# Altium schematic symbol library 按键-开关.SchLib: 36 symbols
Pins are listed as number, name and electrical type; pins without a type are passive.

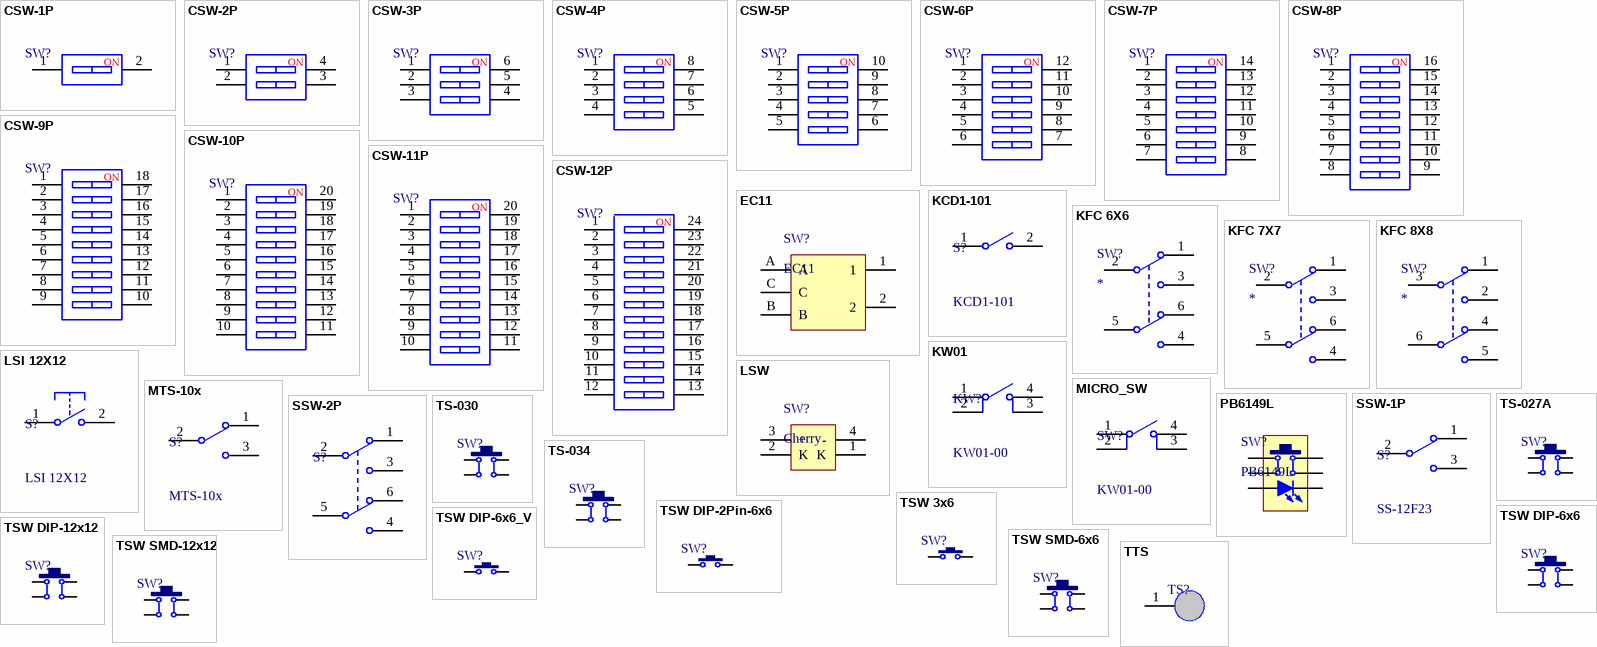
[diagram p0: symbols CSW-1P to TTS]

## CSW-1P
designator SW?  (value not drawn)
1路编码开关; BOM名称: 1路编码开关
footprint CSW DIP-1P (4.1*9.9*7mm)
footprint CSW DIP-1P_G (4.1*9.9*7mm)
pins: 1, 2
text: NO

## CSW-2P
designator SW?  (value not drawn)
2路编码开关; BOM名称: 2路编码开关
footprint CSW DIP-2P (6.6*9.9*7mm)
footprint CSW DIP-2P_G (6.6*9.9*7mm)
footprint CSW1.27 SMD-2P (长：4.14mm，宽：5.4mm，高：2.3mm)
pins: 1, 2, 3, 4
text: NO

## CSW-3P
designator SW?  (value not drawn)
3路编码开关; BOM名称: 3路编码开关
footprint CSW DIP-3P (9.2*9.9*7mm)
footprint CSW DIP-3P_G (9.2*9.9*7mm)
footprint CSW1.27 SMD-3P (长：5.41mm，宽：5.4mm，高：2.3mm)
pins: 1, 2, 3, 4, 5, 6
text: NO

## CSW-4P
designator SW?  (value not drawn)
4路编码开关; BOM名称: 4路编码开关
footprint CSW DIP-4P (11.7*9.9*7mm)
footprint CSW DIP-4P_G (11.7*9.9*7mm)
footprint CSW1.27 SMD-4P (长：6.68mm，宽：5.4mm，高：2.3mm)
pins: 1, 2, 3, 4, 5, 6, 7, 8
text: NO

## CSW-5P
designator SW?  (value not drawn)
5路编码开关; BOM名称: 5路编码开关
footprint CSW DIP-5P (14.2*9.9*7mm)
footprint CSW DIP-5P_G (14.2*9.9*7mm)
footprint CSW1.27 SMD-5P (长：7.95mm，宽：5.4mm，高：2.3mm)
pins: 1, 2, 3, 4, 5, 6, 7, 8, 9, 10
text: NO

## CSW-6P
designator SW?  (value not drawn)
6路编码开关; BOM名称: 6路编码开关
footprint CSW DIP-6P (16.8*9.9*7mm)
footprint CSW DIP-6P_G (16.8*9.9*7mm)
footprint CSW1.27 SMD-6P (长：9.22mm，宽：5.4mm，高：2.3mm)
pins: 1, 2, 3, 4, 5, 6, 7, 8, 9, 10, 11, 12
text: NO

## CSW-7P
designator SW?  (value not drawn)
7路编码开关; BOM名称: 7路编码开关
footprint CSW DIP-7P (19.3*9.9*7mm)
footprint CSW DIP-7P_G (19.3*9.9*7mm)
pins: 1, 2, 3, 4, 5, 6, 7, 8, 9, 10, 11, 12, 13, 14
text: NO

## CSW-8P
designator SW?  (value not drawn)
8路编码开关; BOM名称: 8路编码开关
footprint CSW DIP-8P (21.9*9.9*7mm)
footprint CSW DIP-8P_G (21.9*9.9*7mm)
footprint CSW1.27 SMD-8P (长：11.76mm，宽：5.4mm，高：2.3mm)
pins: 1, 2, 3, 4, 5, 6, 7, 8, 9, 10, 11, 12, 13, 14, 15, 16
text: NO

## CSW-9P
designator SW?  (value not drawn)
9路编码开关; BOM名称: 9路编码开关
footprint CSW DIP-9P (21.4*9.9*7mm)
footprint CSW DIP-9P_G (21.4*9.9*7mm)
pins: 1, 2, 3, 4, 5, 6, 7, 8, 9, 10, 11, 12, 13, 14, 15, 16, 17, 18
text: NO

## CSW-10P
designator SW?  (value not drawn)
10路编码开关; BOM名称: 10路编码开关
footprint CSW DIP-10P (27*9.9*7mm)
footprint CSW DIP-10P_G (27*9.9*7mm)
footprint CSW1.27 SMD-10P (长：14.3mm，宽：5.4mm，高：2.3mm)
pins: 1, 2, 3, 4, 5, 6, 7, 8, 9, 10, 11, 12, 13, 14, 15, 16, 17, 18, 19, 20
text: NO

## CSW-11P
designator SW?  (value not drawn)
11路编码开关; BOM名称: 11路编码开关
footprint CSW DIP-11P (29.5*9.9*7mm)
footprint CSW DIP-11P_G (29.5*9.9*7mm)
pins: 1, 2, 3, 4, 5, 6, 7, 8, 9, 10, 11, 12, 13, 14, 15, 16, 17, 18, 19, 20
text: NO

## CSW-12P
designator SW?  (value not drawn)
12路编码开关; BOM名称: 12路编码开关
footprint CSW DIP-12P (32.1*9.9*7mm)
footprint CSW DIP-12P_G (32.1*9.9*7mm)
pins: 1, 2, 3, 4, 5, 6, 7, 8, 9, 10, 11, 12, 13, 14, 15, 16, 17, 18, 19, 20, 21, 22, 23, 24
text: NO

## EC11
designator SW?
数字开关编码器; BOM名称: 数字编码开关
footprint EC11 (数字开关编码器)
footprint EC11-B (数字开关编码器)
pins: 1, 2, A, B, C

## KCD1-101
designator S?
1路单刀船型开关; BOM名称: 1路单刀船型开关
footprint KCD1-101 (船型开关立式)
pins: 1, 2

## KFC 6X6
designator SW?
6*6自锁开关; BOM名称: 6*6自锁开关
footprint KFC DIP-6X6 (自锁开关，规格：6*6*12.5mm)
pins: 1 NC1, 2 COM2, 3 NO1, 4 NO2, 5 COM2, 6 NC2

## KFC 7X7
designator SW?
7*7自锁开关; BOM名称: 7*7自锁开关
footprint KFC DIP-7X7 (自锁开关，规格：7*7mm)
pins: 1 NC1, 2 COM2, 3 NO1, 4 NO2, 5 COM2, 6 NC2

## KFC 8X8
designator SW?
8*8自锁开关; BOM名称: 8*8自锁开关
footprint KFC DIP-8X8 (自锁开关，规格：8*8mm)
pins: 1 NC1, 2 COM2, 3 NO1, 4 NO2, 5 COM2, 6 NC2

## KW01
designator KW?, comment KW01-00
微动开关; BOM名称: 微动开关
footprint KW01-00 (长：6.4mm，宽：3.0mm，高：8.5mm)
footprint KW01-01 (长：6.4mm，宽：3.0mm，高：11mm)
pins: 1, 2, 3, 4

## LSI 12X12
designator S?
1路单刀船型开关; BOM名称: 1路单刀船型开关
footprint LSI DIP12X12 (12mm*12mm*9.4mm(长*宽*高))
pins: 1, 2

## LSW
designator SW?, comment Cherry
带灯机械按键开关; BOM名称: 带灯机械按键开关
footprint LSW DIP-CHERRY
pins: 1 K, 2 K, 3 +, 4 -

## MICRO_SW
designator SW?, comment KW01-00
微动开关; BOM名称: 微动开关
footprint KW01-00 (长：6.4mm，宽：3.0mm，高：8.5mm)
footprint KW01-01 (长：6.4mm，宽：3.0mm，高：11mm)
footprint KFC-V-221 (长：4.75mm，宽：3.7mm，高：3.8mm)
pins: 1, 2, 3, 4

## MTS-10x
designator S?
MTS10x系列3脚扭子开关; BOM名称: MTS10x系列3脚扭子开关
footprint MTS-10x (MTS10系列3脚扭子开关)
pins: 1, 2, 3

## PB6149L
designator SW?
6*6自锁带灯开关; BOM名称: 6*6自锁带灯开关
footprint PB6149L-6*6*18 (6mm*6mm*18mm(长*宽*高))
pins: 1, 2, 3, 4, L1 A, L2 K

## SSW-1P
designator S?, comment SS-12F23
1路波动开关; BOM名称: 波动开关
footprint SS-12F23
footprint SS-12D10
footprint MSK-12C01-07 (6.7*2.8*1.5mm(长宽高）)
footprint SK-12D07VG3 (侧脚支架小型拨动开关)
pins: 1, 2, 3

## SSW-2P
designator S?, comment SK-22D02  (value not drawn)
2路波动开关; BOM名称: 波动开关
footprint SK-22D02 (10.4x6.1x4.2mm(长宽高)，脚距：2mm)
footprint SS-22H07-G2 (柄长2mm，12.7x7x4.7mm(长宽高)，脚距：4mm)
footprint SS-22H07-G3 (柄长3mm，12.7x7x4.7mm(长宽高)，脚距：4mm)
footprint SS-22H07-G4 (柄长4mm，12.7x7x4.7mm(长宽高)，脚距：4mm)
footprint SS-22H07-G5 (柄长5mm，12.7x7x4.7mm(长宽高)，脚距：4mm)
footprint SS-22H07-G6 (柄长6mm，12.7x7x4.7mm(长宽高)，脚距：4mm)
footprint SS-22H07-G7 (柄长7mm，12.7x7x4.7mm(长宽高)，脚距：4mm)
footprint SS-22H07-G8 (柄长8mm，12.7x7x4.7mm(长宽高)，脚距：4mm)
footprint SS-22H07-G9 (柄长9mm，12.7x7x4.7mm(长宽高)，脚距：4mm)
pins: 1, 2, 3, 4, 5, 6

## TS-027A
designator SW?, comment 4x4x0.8  (value not drawn)
薄膜轻触开关; BOM名称: 薄膜轻触开关
footprint TS-027A (4x4x0.8)
pins: 1, 2, 3, 4

## TS-030
designator SW?, comment 4x4x1.5  (value not drawn)
防水轻触开关; BOM名称: 防水轻触开关
footprint TS4x4x1.5 (防水轻触开关4x4x1.5)
footprint TS4x4x1.6 (防水轻触开关4x4x1.6)
footprint TS4x4x1.7 (防水轻触开关4x4x1.7)
footprint TS4x4x1.8 (防水轻触开关4x4x1.8)
footprint TS4x4x1.9 (防水轻触开关4x4x1.9)
footprint TS4x4x2.0 (防水轻触开关4x4x2.0)
footprint TS4x4x2.3 (防水轻触开关4x4x2.3)
footprint TS4x4x2.5 (防水轻触开关4x4x2.5)
footprint TS4x4x3 (防水轻触开关4x4x3)
footprint TS4x4x3.5 (防水轻触开关4x4x3.5)
footprint TS4x4x4 (防水轻触开关4x4x4)
footprint TS4x4x4.3 (防水轻触开关4x4x4.3)
footprint TS4x4x5 (防水轻触开关4x4x5)
footprint TS4x4x6 (防水轻触开关4x4x6)
footprint TS4x4x7 (防水轻触开关4x4x7)
footprint TS4x4x8 (防水轻触开关4x4x8)
footprint TS4x4x9 (防水轻触开关4x4x9)
pins: 1, 2, 3, 4

## TS-034
designator SW?, comment 6x6x2.5  (value not drawn)
贴片轻触开关; BOM名称: 贴片轻触开关
footprint TS6x6x2.5 (贴片轻触开关6x6x2.5)
footprint TS6x6x2.7 (贴片轻触开关6x6x2.7)
footprint TS6x6x3.1 (贴片轻触开关6x6x3.1)
footprint TS6x6x3.4 (贴片轻触开关6x6x3.4)
footprint TS6x6x3.7 (贴片轻触开关6x6x3.7)
footprint TS6x6x4.3 (贴片轻触开关6x6x4.3)
footprint TS6x6x5.0 (贴片轻触开关6x6x5.0)
footprint TS6x6x5.5 (贴片轻触开关6x6x5.5)
pins: 1, 2, 3, 4

## TSW 3x6
designator SW?, comment 3x6x5  (value not drawn)
3x6轻触开关; BOM名称: 3x6轻触开关
footprint TSW SMD-3*6*2.5 (3*6*2.5mm)
footprint TSW DIP-3*6*5_V (侧按轻触开关 3*6*5mm)
footprint TSW DIP-3*6*4.3 (3*6*4.3mm)
footprint TSW DIP-3*6*4.3_V (侧按轻触开关 3*6*4.3mm)
footprint TSW DIP-3*6*5 (3*6*5mm)
footprint TSW SMD-3*6*4.3 (3*6*4.3mm)
footprint TSW SMD-3*6*5 (3*6*5mm)
footprint TSW 3*6*4.3-S-W (侧立贴片3*6*4.3)
pins: 1, 2

## TSW DIP-2Pin-6x6
designator SW?, comment 6x6x5  (value not drawn)
2脚直插6x6轻触开关; BOM名称: 2脚轻触开关
footprint TSW DIP-2Pin-6*6*6 (2Pin，6*6*6mm)
footprint TSW DIP-2Pin-6*6*4.3 (2Pin，6*6*4.3mm)
footprint TSW DIP-2Pin-6*6*9 (2Pin，6*6*9mm)
footprint TSW DIP-2Pin-6*6*5 (2Pin，6*6*5mm)
footprint TSW DIP-2Pin-6*6*7 (2Pin，6*6*7mm)
footprint TSW DIP-2Pin-6*6*8 (2Pin，6*6*8mm)
footprint TSW DIP-2Pin-6*6*10 (2Pin，6*6*10mm)
footprint TSW DIP-2Pin-6*6*11 (2Pin，6*6*11mm)
footprint TSW DIP-2Pin-6*6*12 (2Pin，6*6*12mm)
footprint TSW DIP-2Pin-6*6*13 (2Pin，6*6*13mm)
footprint TSW DIP-2Pin-6*6*14 (2Pin，6*6*14mm)
footprint TSW DIP-2Pin-6*6*15 (2Pin，6*6*15mm)
pins: 1, 2

## TSW DIP-6x6
designator SW?, comment 6x6x5  (value not drawn)
直插6x6轻触开关; BOM名称: 直插6x6轻触开关
footprint TSW DIP-6*6*6 (6*6*6mm)
footprint TSW DIP-6*6*4.3 (6*6*4.3mm)
footprint TSW DIP-6*6*9 (6*6*9mm)
footprint TSW DIP-6*6*5 (6*6*5mm)
footprint TSW DIP-6*6*7 (6*6*7mm)
footprint TSW DIP-6*6*8 (6*6*8mm)
footprint TSW DIP-6*6*10 (6*6*10mm)
footprint TSW DIP-6*6*11 (6*6*11mm)
footprint TSW DIP-6*6*12 (6*6*12mm)
footprint TSW DIP-6*6*13 (6*6*13mm)
footprint TSW DIP-6*6*14 (6*6*14mm)
footprint TSW DIP-6*6*15 (6*6*15mm)
pins: 1, 2, 3, 4

## TSW DIP-6x6_V
designator SW?, comment 6x6x5  (value not drawn)
侧按直插6x6轻触开关; BOM名称: 直插6x6轻触开关
footprint TSW DIP-6*6*6_V (侧按轻触开关 6*6*6mm)
footprint TSW DIP-6*6*4.3_V (侧按轻触开关 6*6*4.3mm)
footprint TSW DIP-6*6*9_V (侧按轻触开关 6*6*9mm)
footprint TSW DIP-6*6*5_V (侧按轻触开关 6*6*5mm)
footprint TSW DIP-6*6*7_V (侧按轻触开关 6*6*7mm)
footprint TSW DIP-6*6*8_V (侧按轻触开关 6*6*8mm)
footprint TSW DIP-6*6*10_V (侧按轻触开关 6*6*10mm)
footprint TSW DIP-6*6*11_V (侧按轻触开关 6*6*11mm)
footprint TSW DIP-6*6*12_V (侧按轻触开关 6*6*12mm)
pins: 1, 2

## TSW DIP-12x12
designator SW?, comment 12x12x5  (value not drawn)
直插12x12轻触开关; BOM名称: 直插12x12轻触开关
footprint TSW DIP-12*12*4.3 (12*12*4.3mm)
footprint TSW DIP-12*12*5 (12*12*5mm)
footprint TSW DIP-12*12*6 (12*12*6mm)
footprint TSW DIP-12*12*7 (12*12*7mm)
footprint TSW DIP-12*12*8 (12*12*8mm)
footprint TSW DIP-12*12*9 (12*12*9mm)
footprint TSW DIP-12*12*10 (12*12*10mm)
footprint TSW DIP-12*12*11 (12*12*11mm)
footprint TSW DIP-12*12*12 (12*12*12mm)
footprint TSW DIP-12*12*13 (12*12*13mm)
footprint TSW DIP-12*12*7.3 (12*12*7.3mm)
pins: 1, 2, 3, 4

## TSW SMD-6x6
designator SW?, comment 6x6x5  (value not drawn)
贴片6x6轻触开关; BOM名称: 贴片6x6轻触开关
footprint TSW SMD-6*6*4.3 (6*6*4.3mm)
footprint TSW SMD-6*6*5 (6*6*5mm)
footprint TSW SMD-6*6*6 (6*6*6mm)
footprint TSW SMD-6*6*7 (6*6*7mm)
footprint TSW SMD-6*6*8 (6*6*8mm)
footprint TSW SMD-6*6*9 (6*6*9mm)
footprint TSW SMD-6*6*10 (6*6*10mm)
footprint TSW SMD-6*6*12 (6*6*12mm)
footprint TSW SMD-6*6*13 (6*6*13mm)
footprint TSW SMD-6*6*14 (6*6*14mm)
footprint TSW SMD-6*6*15 (6*6*15mm)
pins: 1, 2, 3, 4

## TSW SMD-12x12
designator SW?, comment 12x12x5  (value not drawn)
贴片12x12轻触开关; BOM名称: 贴片12x12轻触开关
footprint TSW SMD-12*12*4.3 (12*12*4.3mm)
footprint TSW SMD-12*12*5 (12*12*5mm)
footprint TSW SMD-12*12*6 (12*12*6mm)
footprint TSW SMD-12*12*7 (12*12*7mm)
footprint TSW SMD-12*12*8 (12*12*8mm)
footprint TSW SMD-12*12*9 (12*12*9mm)
footprint TSW SMD-12*12*10 (12*12*10mm)
footprint TSW SMD-12*12*11 (12*12*11mm)
footprint TSW SMD-12*12*12 (12*12*12mm)
footprint TSW SMD-12*12*13 (12*12*13mm)
pins: 1, 2, 3, 4

## TTS
designator TS?, comment 12x16  (value not drawn)
触控弹簧; BOM名称: 触控弹簧
footprint TS-H-12x16 (顶部直径：12mm，高：16mm)
pins: 1